# Altium schematic symbol library 7_Seg_led.SchLib: 5 symbols
Pins are listed as number, name and electrical type; pins without a type are passive.

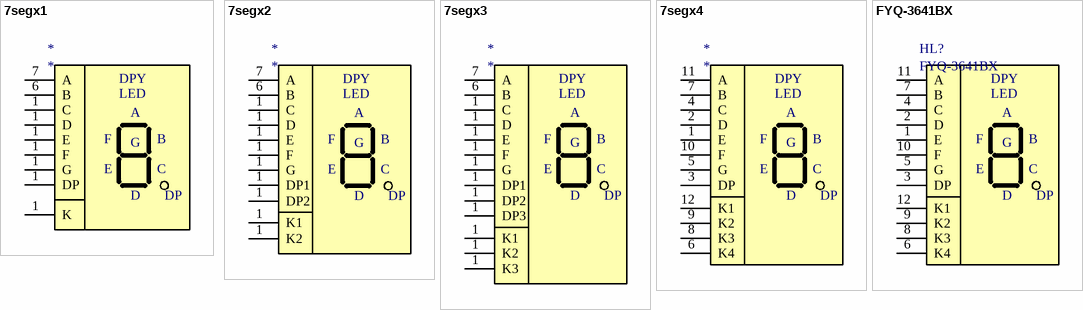
[diagram p0: symbols 7segx1 to FYQ-3641BX]

## 7segx1
designator *
pins: 1 C, 1 D, 1 E, 1 F, 1 G, 1 DP, 1 K, 6 B, 7 A
text: DPY; LED

## 7segx2
designator *
pins: 1 C, 1 D, 1 E, 1 F, 1 G, 1 DP1, 1 K1, 1 K2, 1 DP2, 6 B, 7 A
text: DPY; LED; DP

## 7segx3
designator *
pins: 1 C, 1 D, 1 E, 1 F, 1 G, 1 DP1, 1 K3, 1 DP2, 1 DP3, 1 K1, 1 K2, 6 B, 7 A
text: DPY; LED; DP

## 7segx4
designator *
pins: 1 E, 2 D, 3 DP, 4 C, 5 G, 6 K4, 7 B, 8 K3, 9 K2, 10 F, 11 A, 12 K1
text: DPY; LED

## FYQ-3641BX
designator HL?
pins: 1 E, 2 D, 3 DP, 4 C, 5 G, 6 K4, 7 B, 8 K3, 9 K2, 10 F, 11 A, 12 K1
text: DPY; LED